# Altium schematic symbol library Jumper 8.SchLib: 1 symbol
Pins are listed as number, name and electrical type; pins without a type are passive.

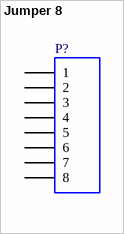
[diagram p0: symbol Jumper 8]

## Jumper 8
designator P?
Jumper / link header, 8-Pin
pins: 1, 2, 3, 4, 5, 6, 7, 8